# EAGLE library part ATTINY1616 (library HomeMade)
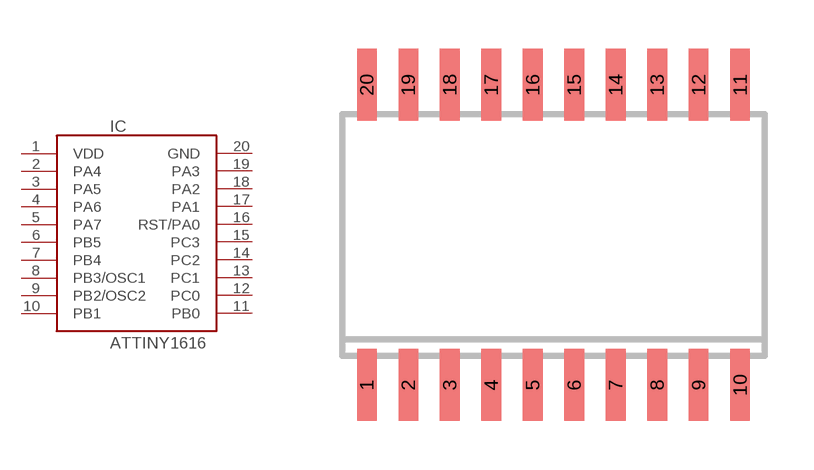
[diagram p8: symbol with the pads of SO20W; footprint SO20W]

Designator prefix IC

## ATTINY1616  [SO20W]
1  VDD  pwr
2  PA4
3  PA5
4  PA6
5  PA7
6  PB5
7  PB4
8  PB3/OSC1
9  PB2/OSC2
10  PB1
11  PB0
12  PC0
13  PC1
14  PC2
15  PC3
16  RST/PA0
17  PA1
18  PA2
19  PA3
20  GND  pwr

## Footprint SO20W (pad centres in mm)
smd 0.6 x 2.2: 1 -5.715,-4.6; 2 -4.445,-4.6; 3 -3.175,-4.6; 4 -1.905,-4.6; 5 -0.635,-4.6; 6 0.635,-4.6; 7 1.905,-4.6; 8 3.175,-4.6; 9 4.445,-4.6; 10 5.715,-4.6; 11 5.715,4.6; 12 4.445,4.6; 13 3.175,4.6; 14 1.905,4.6; 15 0.635,4.6; 16 -0.635,4.6; 17 -1.905,4.6; 18 -3.175,4.6; 19 -4.445,4.6; 20 -5.715,4.6